# Altium schematic symbol library link.SchLib: 2 symbols
Pins are listed as number, name and electrical type; pins without a type are passive.

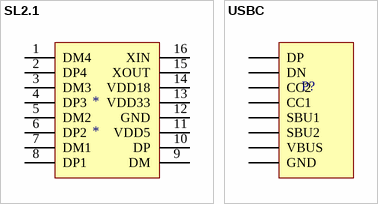
[diagram p0: symbols SL2.1 to USBC]

## SL2.1
designator *
footprint SOP16
pins: 1 DM4, 2 DP4, 3 DM3, 4 DP3, 5 DM2, 6 DP2, 7 DM1, 8 DP1, 9 DM, 10 DP, 11 VDD5, 12 GND, 13 VDD33, 14 VDD18, 15 XOUT, 16 XIN

## USBC
designator P?  (value not drawn)
footprint USBTC
pins: CC1, CC2, DN, DP, GND, SBU1, SBU2, VBUS